# EAGLE library part MCP23008 (library SteveMarple)
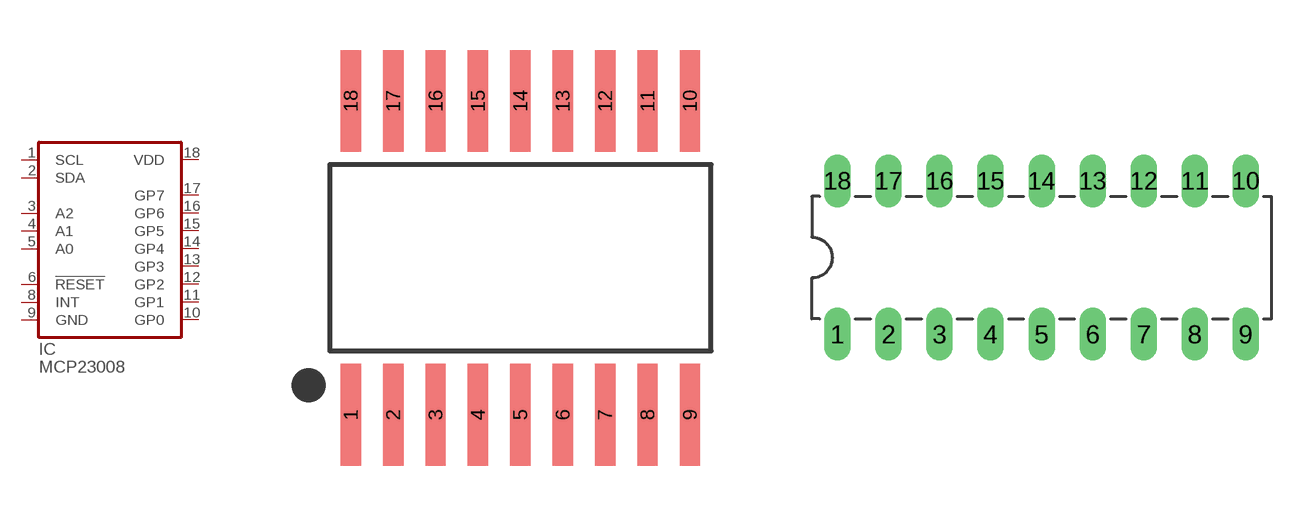
[diagram p43: symbol with the pads of SO18-HAND; footprints SO18-HAND, DIL18]

Designator prefix IC

## MCP23008SO18-HAND  [SO18-HAND]
1  SCL
2  SDA
3  A2  in
4  A1  in
5  A0  in
6  !RESET  in
8  INT  out
9  GND  pwr
10  GP0
11  GP1
12  GP2
13  GP3
14  GP4
15  GP5
16  GP6
17  GP7
18  VDD  pwr

## MCP23008DIL  [DIL18]
Pads as for SO18-HAND

## Footprint SO18-HAND (pad centres in mm)
smd 0.61 x 3.048: 1 -5.08,-4.699; 2 -3.81,-4.699; 3 -2.54,-4.699; 4 -1.27,-4.699; 5 0,-4.699; 6 1.27,-4.699; 7 2.54,-4.699; 8 3.81,-4.699; 9 5.08,-4.699; 10 5.08,4.699; 11 3.81,4.699; 12 2.54,4.699; 13 1.27,4.699; 14 0,4.699; 15 -1.27,4.699; 16 -2.54,4.699; 17 -3.81,4.699; 18 -5.08,4.699

## Footprint DIL18 (pad centres in mm)
Dual In Line Package
drill 0.813 long: 1 -10.16,-3.81; 2 -7.62,-3.81; 3 -5.08,-3.81; 4 -2.54,-3.81; 5 0,-3.81; 6 2.54,-3.81; 7 5.08,-3.81; 8 7.62,-3.81; 9 10.16,-3.81; 10 10.16,3.81; 11 7.62,3.81; 12 5.08,3.81; 13 2.54,3.81; 14 0,3.81; 15 -2.54,3.81; 16 -5.08,3.81; 17 -7.62,3.81; 18 -10.16,3.81